# Altium schematic symbol library Conn_4pin.SchLib: 1 symbol
Pins are listed as number, name and electrical type; pins without a type are passive.

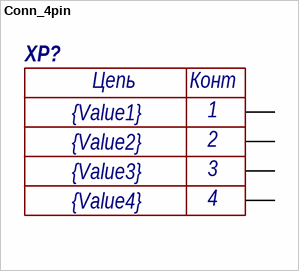
[diagram p0: symbol Conn_4pin]

## Conn_4pin
designator XP?  Value3: {Value3}  Value2: {Value2}  Value4: {Value4}  Value1: {Value1}
pins: 1, 2, 3, 4
text: Цепь; Конт